# Altium footprint library DIOMELF3414N.PcbLib: 1 footprints
Each footprint in its own frame and in the unit in brackets; x right, y up, seen from the top. Pads: shape width x height; smd on the part's side, far side on the other; paste and mask are expansions set on the pad; w line width, h text height; cw(c..) or ccw(c..) is an arc to the next point about the centre after c.
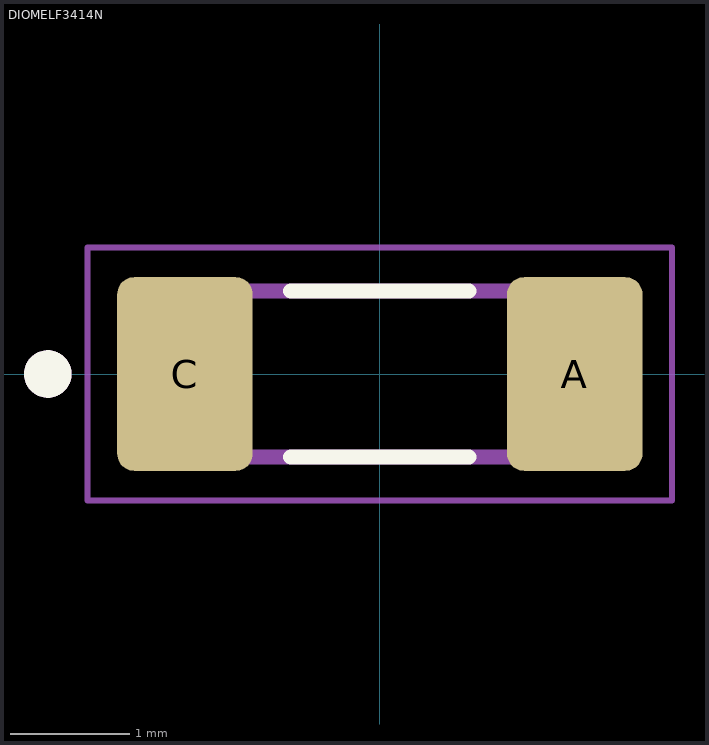
[diagram p0: the footprint, top view; thin cyan lines are the x and y axes]

## DIOMELF3414N [mm]
pads (2):
  rrect25% 1.14x1.63 smd: A(1.64,0) C(-1.64,0)
Top Overlay:
  circle w0.2: c-2.795,0 r0.1
  lines w0.127: -0.75,-0.7 0.75,-0.7 ; -0.75,0.7 0.75,0.7
Mechanical 13:
  circle w0.2: c-2.795,0 r0.1
  lines w0.127: -1.7,-0.7 -1.7,0.7 1.7,0.7 1.7,-0.7 -1.7,-0.7
Mechanical 15:
  lines w0.05: -2.46,-1.065 -2.46,1.065 2.46,1.065 2.46,-1.065 -2.46,-1.065